# Altium schematic symbol library LQH43CN100K03L.SchLib: 1 symbol
Pins are listed as number, name and electrical type; pins without a type are passive.

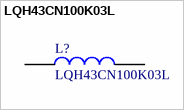
[diagram p0: symbol LQH43CN100K03L]

## LQH43CN100K03L
designator L?
Power inductor SMD 1812 10uH Murata LQH43CN Series Wire-wound SMD Inductor 10 H 10% 650mA Idc; Manufacturer_Name: Murata Electronics; Geometry.Height: 2.8mm; Manufacturer_Part_Number: LQH43CN100K03L; RS Part Number: 7255165P; RS Price/Stock: http://uk.rs-online.com/web/p/products/7255165P; Arrow Part Number: LQH43CN100K03L; Arrow Price/Stock: https://www.arrow.com/en/products/lqh43cn100k03l/murata-manufacturing; Datasheet Link: http://search.murata.co.jp/Ceramy/image/img/PDF/ENG/L0075S0093LQH43C_03.pdf
footprint INDPM4532X280N
pins: 1, 2